# EAGLE library part FTSH-103-01-L-DV (library con-samtec)
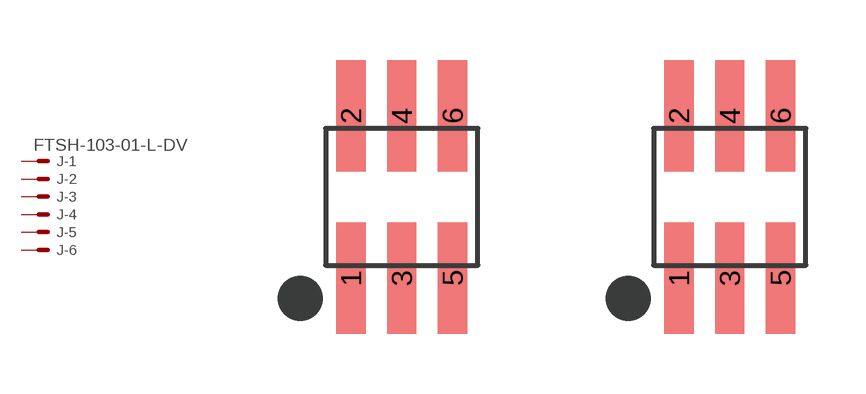
[diagram p1: symbol with the pads of FTSH-103-01-L-DV; footprints FTSH-103-01-L-DV, FTSH-103-01-L-DV-NOPASTE]

Designator prefix J; gates -1=MV-1 -2=M-1 -3=M-1 -4=M-1 -5=M-1 -6=M-1

## FTSH-103-01-L-DV  [FTSH-103-01-L-DV]
1  -1:S  pas
2  -2:S  pas
3  -3:S  pas
4  -4:S  pas
5  -5:S  pas
6  -6:S  pas

## FTSH-103-01-L-DV-NOPASTE  [FTSH-103-01-L-DV-NOPASTE]
Pads as for FTSH-103-01-L-DV

## Footprint FTSH-103-01-L-DV (pad centres in mm)
smd 0.737 x 2.794: 1 -1.27,-2.032; 2 -1.27,2.032; 3 0,-2.032; 4 0,2.032; 5 1.27,-2.032; 6 1.27,2.032

## Footprint FTSH-103-01-L-DV-NOPASTE (pad centres in mm)
smd 0.737 x 2.794: 1 -1.27,-2.032; 2 -1.27,2.032; 3 0,-2.032; 4 0,2.032; 5 1.27,-2.032; 6 1.27,2.032